# Altium schematic symbol library Pads.SchLib: 9 symbols
Pins are listed as number, name and electrical type; pins without a type are passive.

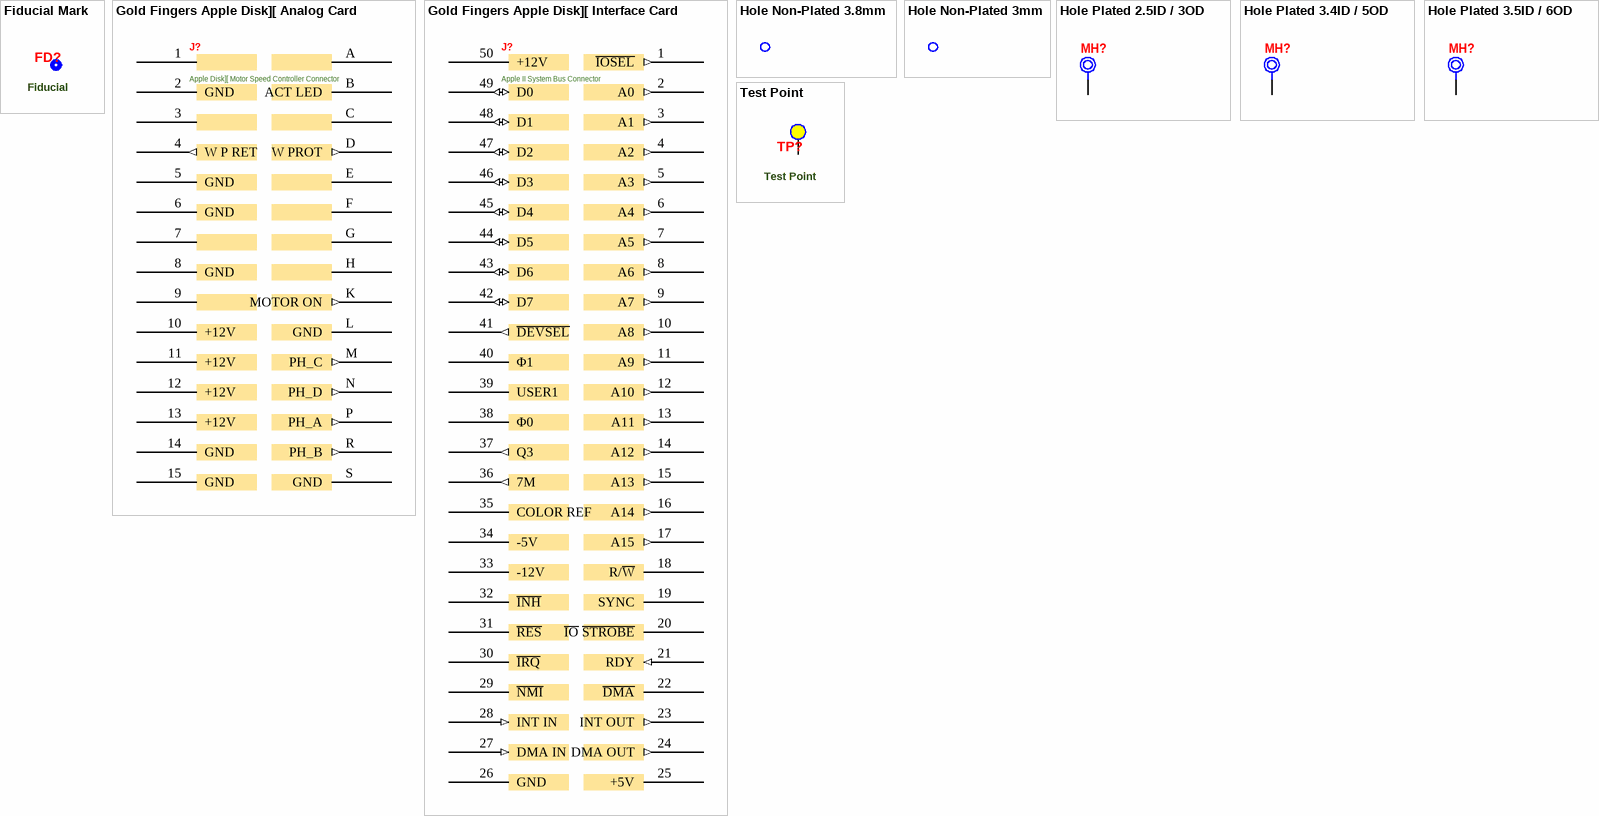
[diagram p0: symbols Fiducial Mark to Test Point]

## Fiducial Mark
designator FD?, comment Fiducial  (no BOM)
PCB Fiducial Mark
footprint FID_RD (PCB Fiducial Mark Round)
footprint FID_SQ (PCB Fiducial Mark Square)

## Gold Fingers Apple Disk][ Analog Card
designator J?, comment Apple Disk][ Motor Speed Controller Connector  (no BOM)
footprint PAD254P127X762-30 (Gold Fingers x30, pitch 2.54mm, 1.27mm W x 7.62mm H)
pins: 1, 2 GND (power), 3, 4 W P RET (out), 5 GND (power), 6 GND (power), 7, 8 GND (power), 9, 10 +12V (power), 11 +12V (power), 12 +12V (power), 13 +12V (power), 14 GND (power), 15 GND (power), A, B ACT LED, C, D W PROT (out), E, F, G, H, K MOTOR ON (out), L GND (power), M PH_C (out), N PH_D (out), P PH_A (out), R PH_B (out), S GND (power)

## Gold Fingers Apple Disk][ Interface Card
designator J?, comment Apple II System Bus Connector  (no BOM)
footprint PAD254P127X762-50 (Gold Fingers x50, pitch 2.54mm, 1.27mm W x 7.62mm H)
pins: 1 ~{IOSEL} (out), 2 A0 (out), 3 A1 (out), 4 A2 (out), 5 A3 (out), 6 A4 (out), 7 A5 (out), 8 A6 (out), 9 A7 (out), 10 A8 (out), 11 A9 (out), 12 A10 (out), 13 A11 (out), 14 A12 (out), 15 A13 (out), 16 A14 (out), 17 A15 (out), 18 R/~{W}, 19 SYNC, 20 ~{IO} ~{STROBE}, 21 RDY (in), 22 ~{DMA}, 23 INT OUT (out), 24 DMA OUT (out), 25 +5V (power), 26 GND (power), 27 DMA IN (in), 28 INT IN (in), 29 ~{NMI}, 30 ~{IRQ}, 31 ~{RES} (oc), 32 ~{INH}, 33 -12V (power), 34 -5V (power), 35 COLOR REF, 36 7M (out), 37 Q3 (out), 38 Φ0, 39 USER1, 40 Φ1, 41 ~{DEVSEL} (out), 42 D7 (io), 43 D6 (io), 44 D5 (io), 45 D4 (io), 46 D3 (io), 47 D2 (io), 48 D1 (io), 49 D0 (io), 50 +12V (power)

## Hole Non-Plated 3.8mm
designator NPTH?, comment Non-Plated Through Hole  (value not drawn)  (no BOM)
Hole Non-Plated 3.8mm
footprint NPTH 3.8mm (Non-Plated Through-Hole 3.8mm Diam)

## Hole Non-Plated 3mm
designator NPTH?, comment Non-Plated Through Hole  (value not drawn)  (no BOM)
Hole Non-Plated 3mm
footprint NPTH 3mm (Non-Plated Through-Hole 3mm Diam)

## Hole Plated 2.5ID / 3OD
designator MH?, comment Plated Through-Hole  (value not drawn)  (no BOM)
Hole Plated 2.5mm ID / 3mm OD
footprint PTH 2.5MM (Plated Through Hole 2.5mm Diam)
pins: 1

## Hole Plated 3.4ID / 5OD
designator MH?, comment Plated Through-Hole  (value not drawn)  (no BOM)
Hole Plated 3.4mm ID / 5mm OD
footprint PTH 3.4MM (Plated Through Hole 3.4mm Diam)
pins: 1

## Hole Plated 3.5ID / 6OD
designator MH?, comment Plated Through-Hole  (value not drawn)  (no BOM)
Hole Plated 3.5mm ID / 6mm OD
footprint PTH 3.5MM (Plated Through Hole 3.5mm Diam)
pins: 1

## Test Point
designator TP?  (no BOM)
PCB Test Point; Value: Test Point
footprint TEST POINT HOLE 0.7mm ID / 1mm OD (PCB Test Point)
footprint TEST POINT HOLE 0.8mm ID / 1.2mm OD (PCB Test Point)
footprint TEST POINT PAD 0.9mm (PCB Test Point)
footprint TEST POINT PAD 1mm (PCB Test Point)
footprint SAMTEC_HTSW-101-07-L-S (Connector Header Through Hole 1 position); pin to pad TP>1
footprint KOA_RCWCTE (KOA Speer Test Point Chip EIA 1206)
pins: TP